# Altium footprint library bbilibs.PcbLib: 2 footprints
Each footprint in its own frame and in the unit in brackets; x right, y up, seen from the top. Pads: shape width x height; smd on the part's side, far side on the other; paste and mask are expansions set on the pad; w line width, h text height; cw(c..) or ccw(c..) is an arc to the next point about the centre after c.
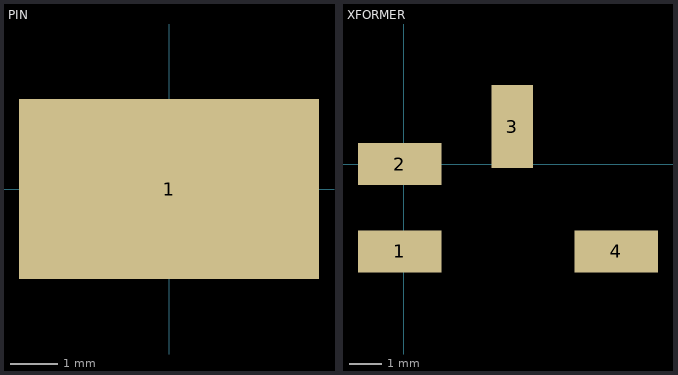
[diagram p0: the footprints below, top view; thin cyan lines are the x and y axes]

## PIN [mil]
pads (1):
  rect 250x150 smd: 1(0,0)

## XFORMER [mil]
pads (4):
  rect 100x50 smd: 1(-5,-105) 2(-5,0) 4(255,-105)
  rect 50x100 smd: 3(130,45)